# EAGLE library part NEUTRIK_COMBO (library TEABOX-LIB)
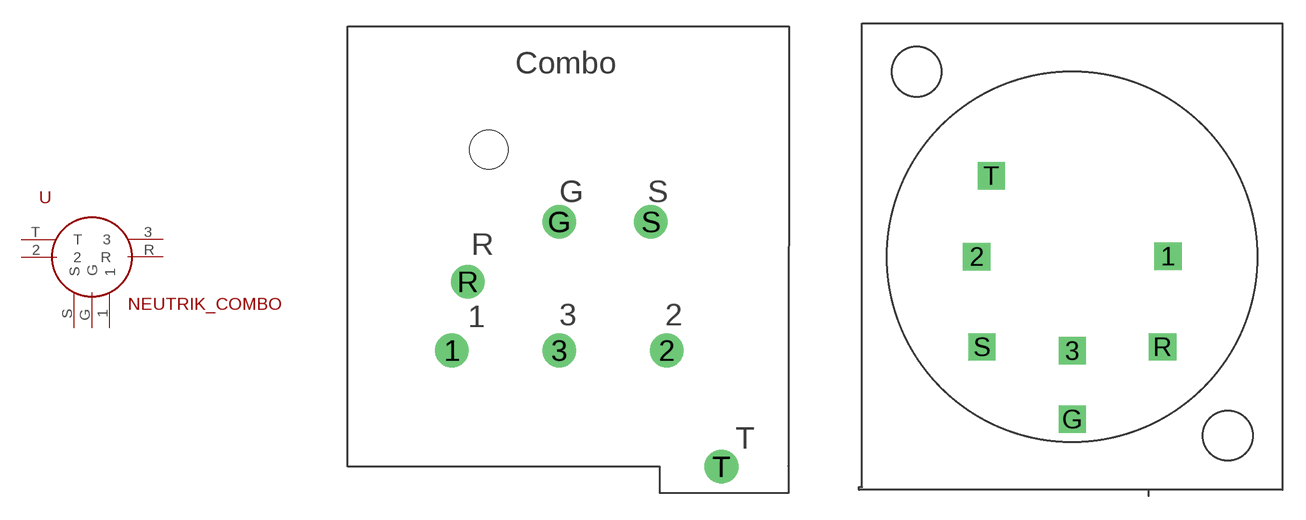
[diagram p8: symbol with the pads of NEUTRIK_COMBO_CONNECTOR_H; footprints NEUTRIK_COMBO_CONNECTOR_H, NEUTRIK_COMBO_CONNECTOR]

Designator prefix -

## NEUTRIK_COMBO_HORIZONTAL  [NEUTRIK_COMBO_CONNECTOR_H]
1  1
2  2
3  3
G  G
R  R
S  S
T  T

## NEUTRIK_COMBO_VERTICAL  [NEUTRIK_COMBO_CONNECTOR]
Pads as for NEUTRIK_COMBO_CONNECTOR_H

## Footprint NEUTRIK_COMBO_CONNECTOR_H (pad centres in mm)
drill 1.27 round: 1 5.9,6.6; 2 18.1,6.6; 3 12,6.6; G 12,13.9; R 6.8,10.5; S 17.2,13.9; T 21.2,0
hole 2.184 at 8,18

## Footprint NEUTRIK_COMBO_CONNECTOR (pad centres in mm)
drill 1.168 square: 1 6.15,0.025; 2 -6.15,0; 3 0,-6.05; G 0,-10.45; R 5.8,-5.8; S -5.8,-5.8; T -5.2,5.2